# Altium footprint library DDR3.PcbLib: 26 footprints (part 1 of 2)
Each footprint in its own frame and in the unit in brackets; x right, y up, seen from the top. Pads: shape width x height; smd on the part's side, far side on the other; paste and mask are expansions set on the pad; w line width, h text height; cw(c..) or ccw(c..) is an arc to the next point about the centre after c.
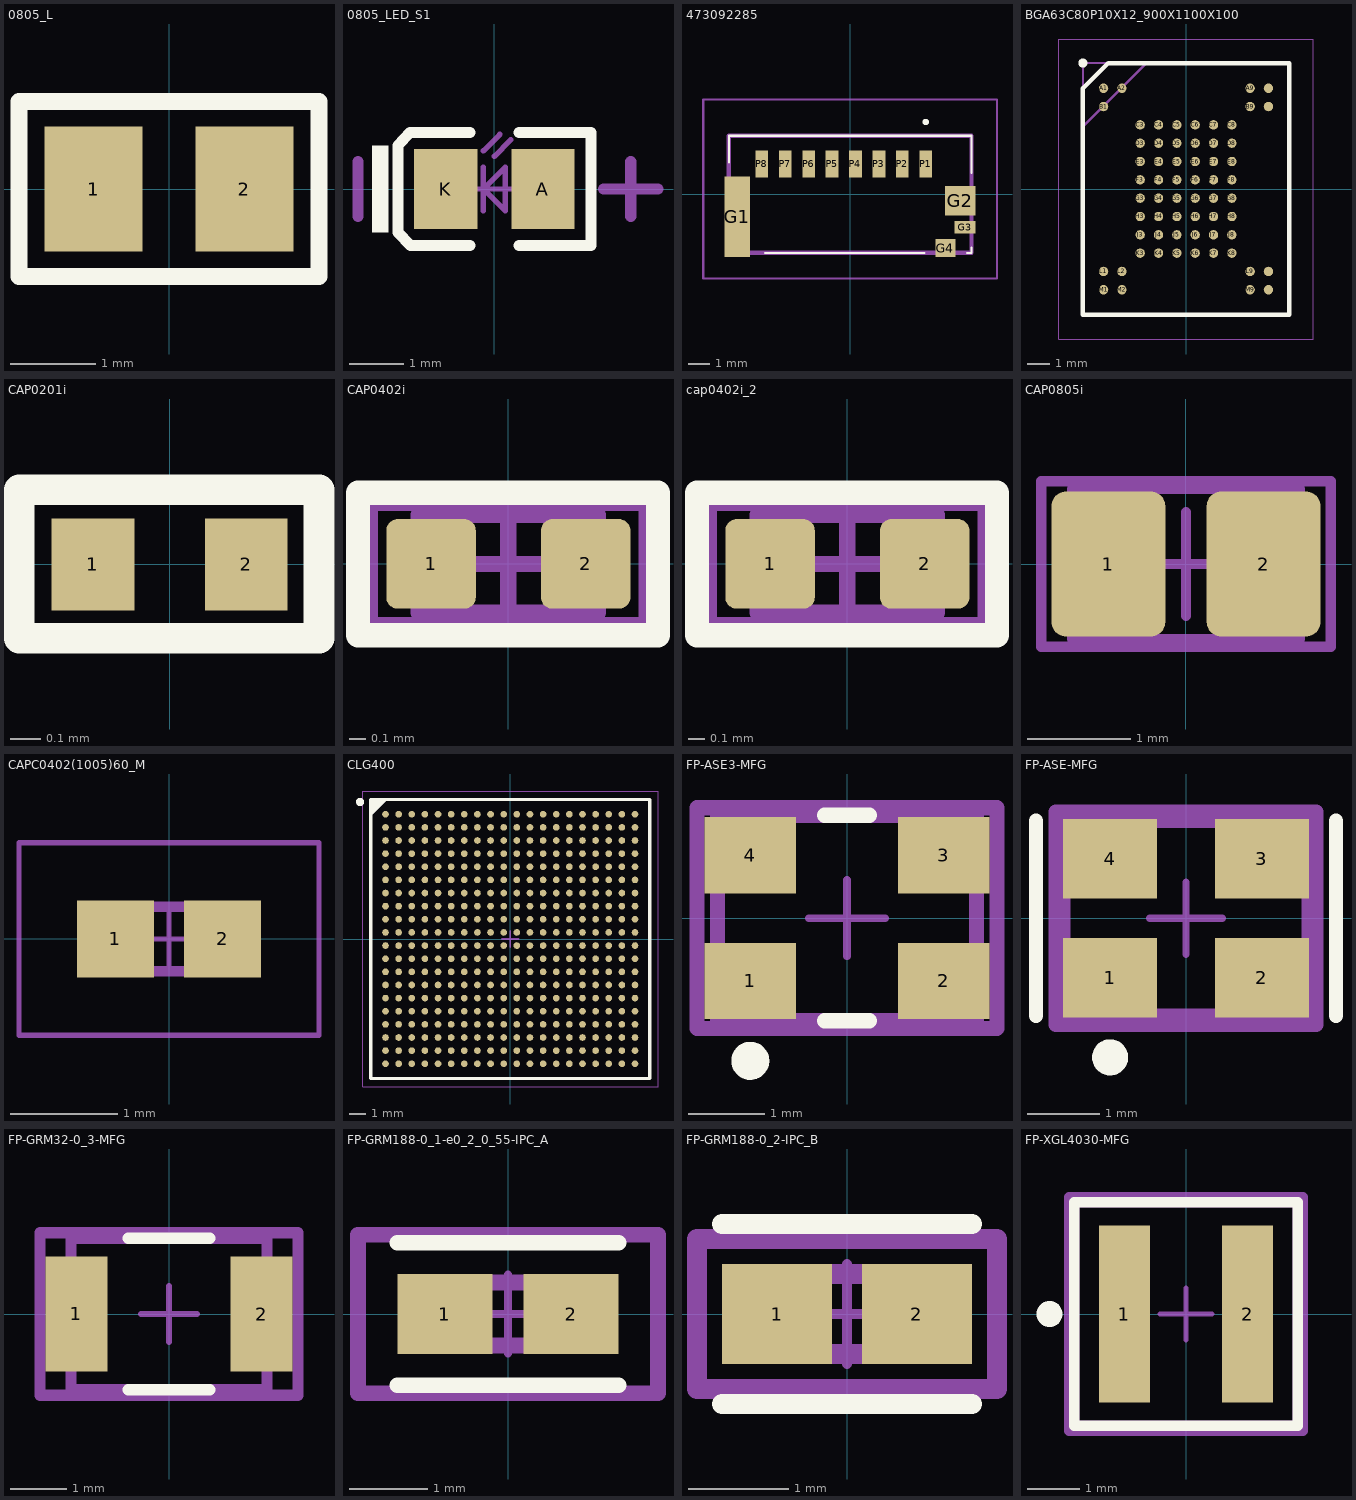
[diagram p0: the footprints below, top view; thin cyan lines are the x and y axes]

## 0805_L [mm]
pads (2):
  rect 1.16x1.47 smd: 1(-0.89,0) 2(0.89,0)
Top Overlay:
  lines w0.2: -1.77,-1.035 -1.77,1.035 1.77,1.035 1.77,-1.035 -1.77,-1.035
3D body "L0805.STEP": height 0.6, standoff -0.02, extent -0.997,-0.638 1.003,0.637

## 0805_LED_S1 [mm]
pads (2):
  rect 1.16x1.47 smd: A(0.89,0) K(-0.89,0)
Top Overlay:
  rectangle: -2.245,-0.8 -1.945,0.8
  lines w0.2: -0.45,-1.035 -1.535,-1.035 -1.77,-0.8 -1.77,0.8 -1.55,1.035 -0.45,1.035 ; 0.45,-1.035 1.77,-1.035 1.77,1.035 0.45,1.035
Mechanical 13:
  lines w0.1: -0.4,0 0.4,0 ; -0.2,-0.4 -0.2,0.4 ; -0.2,0.7 0.1,1 ; 0,0.6 0.3,0.9 ; -0.2,0 0.2,0.4 0.2,-0.4 -0.2,0
Mechanical 15:
  lines w0.203: -2.5,-0.5 -2.5,0.5 ; 2,0 3,0 ; 2.5,-0.5 2.5,0.5
3D body "User Library-led_0805.step": height 1.1, standoff 0, extent -1.01,-0.625 1.01,0.625

## 473092285 [mm]
pads (12):
  rect 1.2x3.79 smd: G1(-5.3,-1.055)
  rect 1.45x1.4 smd: G2(5.175,-0.3)
  rect 1x0.6 smd: G3(5.4,-1.55)
  rect 0.95x0.85 smd: G4(4.475,-2.525)
  rect 0.6x1.25 smd: P1(3.55,1.425) P2(2.45,1.425) P3(1.35,1.425) P4(0.25,1.425) P5(-0.85,1.425) P6(-1.95,1.425) P7(-3.05,1.425) P8(-4.15,1.425)
Top Overlay:
  lines w0.1: -5.7,2.75 5.7,2.75 ; -5.7,2.75 5.7,2.75 ; -5.7,2.75 -5.7,1.5 -5.7,2.75 ; 5.7,-2.75 5.5,-2.75 5.7,-2.75 ; 5.7,-2.75 5.7,-2.5 5.7,-2.75 ; 5.7,2.75 5.7,1 5.7,2.75 ; -4,-2.75 3.5,-2.75 -4,-2.75
  lines w0.2: 3.5,3.4 ccw(c3.55,3.4) 3.6,3.4 ; 3.5,3.4 cw(c3.55,3.4) 3.6,3.4 ; 3.5,3.4 ccw(c3.55,3.4) 3.6,3.4
Top Courtyard:
  lines w0.1: -6.9,-3.95 -6.9,4.45 6.9,4.45 6.9,-3.95 -6.9,-3.95
Mechanical 13:
  lines w0.2: -5.7,-2.75 -5.7,2.75 5.7,2.75 5.7,-2.75 -5.7,-2.75
3D body "47309-2285.stp": height 2.85, standoff 0, extent -5.7,-2.84 5.7,2.66

## BGA63C80P10X12_900X1100X100 [mm]
pads (63):
  round 0.41 smd: A1(-3.6,4.4) A2(-2.8,4.4) A9(2.8,4.4) A10(3.6,4.4) B1(-3.6,3.6) B9(2.8,3.6) B10(3.6,3.6) C3(-2,2.8) C4(-1.2,2.8) C5(-0.4,2.8) C6(0.4,2.8) C7(1.2,2.8) C8(2,2.8) D3(-2,2) D4(-1.2,2) D5(-0.4,2) D6(0.4,2) D7(1.2,2) D8(2,2) E3(-2,1.2) E4(-1.2,1.2) E5(-0.4,1.2) E6(0.4,1.2) E7(1.2,1.2) E8(2,1.2) F3(-2,0.4) F4(-1.2,0.4) F5(-0.4,0.4) F6(0.4,0.4) F7(1.2,0.4) F8(2,0.4) G3(-2,-0.4) G4(-1.2,-0.4) G5(-0.4,-0.4) G6(0.4,-0.4) G7(1.2,-0.4) G8(2,-0.4) H3(-2,-1.2) H4(-1.2,-1.2) H5(-0.4,-1.2) H6(0.4,-1.2) H7(1.2,-1.2) H8(2,-1.2) J3(-2,-2) J4(-1.2,-2) J5(-0.4,-2) J6(0.4,-2) J7(1.2,-2) J8(2,-2) K3(-2,-2.8) K4(-1.2,-2.8) K5(-0.4,-2.8) K6(0.4,-2.8) K7(1.2,-2.8) K8(2,-2.8) L1(-3.6,-3.6) L2(-2.8,-3.6) L9(2.8,-3.6) L10(3.6,-3.6) M1(-3.6,-4.4) M2(-2.8,-4.4) M9(2.8,-4.4) M10(3.6,-4.4)
Top Overlay:
  circle w0.2: c-4.5,5.5 r0.1
  lines w0.2: -4.5,-5.5 -4.5,4.4 -3.4,5.5 4.5,5.5 4.5,-5.5 -4.5,-5.5
Top Courtyard:
  lines w0.05: -5.55,-6.55 -5.55,6.55 5.55,6.55 5.55,-6.55 -5.55,-6.55
Mechanical 13:
  lines w0.1: -4.5,2.725 -1.725,5.5 ; -4.5,-5.5 -4.5,5.5 4.5,5.5 4.5,-5.5 -4.5,-5.5
3D body "MT29F8G08ADADAH4-IT_D.stp": height 1, standoff 0, extent -4.5,-5.5 4.5,5.5

## CAP0201i [mm]
pads (2):
  rect 0.27x0.3 smd mask+0.05: 1(-0.25,0) 2(0.25,0)
Top Overlay:
  lines w0.1: -0.491,-0.241 0.488,-0.241 0.488,0.244 -0.491,0.244 -0.491,-0.241
3D body "GRM033R71C131JA01J.STEP": height 0.31, standoff 0.01, extent -0.311,-0.172 0.289,0.158

## CAP0402i [mm]
pads (2):
  rrect25% 0.55x0.55 smd paste+0 mask+0.07: 1(-0.475,0) 2(0.475,0)
Top Overlay:
  lines w0.15: -0.924,-0.438 -0.924,0.437 -0.137,0.437 0.919,0.437 0.919,-0.438 -0.924,-0.438
Top 3D Body:
  lines w0.1: -0.3,0 0.3,0 ; 0,-0.3 0,0.3 ; -0.85,-0.375 -0.85,0.375 0.85,0.375 0.85,-0.375 -0.85,-0.375
Mechanical 13:
  lines w0.1: -0.55,-0.3 -0.55,0.3 0.55,0.3 0.55,-0.3 -0.55,-0.3
3D body "User Library-Chip Cap_MLCC_0402 (1005).step": height 0.5, standoff 0, extent -0.5,-0.247 0.5,0.253

## cap0402i_2 [mm]
pads (2):
  rrect25% 0.55x0.55 smd paste+0 mask+0.07: 1(-0.475,0) 2(0.475,0)
Top Overlay:
  lines w0.15: -0.924,-0.438 0.919,-0.438 0.919,0.437 -0.137,0.437 -0.924,0.437 -0.924,-0.438
Top 3D Body:
  lines w0.1: -0.3,0 0.3,0 ; 0,-0.3 0,0.3 ; -0.85,-0.375 0.85,-0.375 0.85,0.375 -0.85,0.375 -0.85,-0.375
Mechanical 13:
  lines w0.1: -0.55,-0.3 0.55,-0.3 0.55,0.3 -0.55,0.3 -0.55,-0.3
3D body "User Library-Chip Cap_MLCC_0402 (1005).step": height 0.5, standoff 0, extent -0.5,-0.247 0.5,0.253

## CAP0805i [mm]
pads (2):
  rrect25% 1.1x1.4 smd paste+0 mask+0: 1(-0.75,0) 2(0.75,0)
Top 3D Body:
  lines w0.1: -0.5,0 0.5,0 ; 0,-0.5 0,0.5 ; -1.4,-0.8 -1.4,0.8 1.4,0.8 1.4,-0.8 -1.4,-0.8
Mechanical 13:
  lines w0.1: -1.1,-0.725 -1.1,0.725 1.1,0.725 1.1,-0.725 -1.1,-0.725
3D body "CircuitWorks-CAPACITOR 0805.step": height 0.73, standoff -0.03, extent -1,-0.655 1,0.655

## CAPC0402(1005)60_M [mm] "Chip Capacitor, Body 1.0x0.5mm, Height 0.6mm, IPC Low Density"
height 0.6
pads (2):
  rect 0.72x0.72 smd: 1(-0.5,0) 2(0.5,0)
Mechanical 13:
  lines w0.1: -0.55,-0.3 -0.55,0.3 0.55,0.3 0.55,-0.3 -0.55,-0.3
Mechanical 15:
  lines w0.05: -0.3,0 0.3,0 ; 0,-0.3 0,0.3 ; -1.4,-0.9 -1.4,0.9 1.4,0.9 1.4,-0.9 -1.4,-0.9
3D body: height 0.6, standoff 0, extent -0.3,-0.3 0.3,0.3
3D body: height 0.6, standoff 0, extent -0.55,-0.3 -0.3,0.3
3D body: height 0.6, standoff 0, extent 0.3,-0.3 0.55,0.3

## CLG400 [mm]
pads (400):
  round 0.406 smd: A1(-7.6,7.6) A2(-6.8,7.6) A3(-6,7.6) A4(-5.2,7.6) A5(-4.4,7.6) A6(-3.6,7.6) A7(-2.8,7.6) A8(-2,7.6) A9(-1.2,7.6) A10(-0.4,7.6) A11(0.4,7.6) A12(1.2,7.6) A13(2,7.6) A14(2.8,7.6) A15(3.6,7.6) A16(4.4,7.6) A17(5.2,7.6) A18(6,7.6) A19(6.8,7.6) A20(7.6,7.6) B1(-7.6,6.8) B2(-6.8,6.8) B3(-6,6.8) B4(-5.2,6.8) B5(-4.4,6.8) B6(-3.6,6.8) B7(-2.8,6.8) B8(-2,6.8) B9(-1.2,6.8) B10(-0.4,6.8) B11(0.4,6.8) B12(1.2,6.8) B13(2,6.8) B14(2.8,6.8) B15(3.6,6.8) B16(4.4,6.8) B17(5.2,6.8) B18(6,6.8) B19(6.8,6.8) B20(7.6,6.8) C1(-7.6,6) C2(-6.8,6) C3(-6,6) C4(-5.2,6) C5(-4.4,6) C6(-3.6,6) C7(-2.8,6) C8(-2,6) C9(-1.2,6) C10(-0.4,6) C11(0.4,6) C12(1.2,6) C13(2,6) C14(2.8,6) C15(3.6,6) C16(4.4,6) C17(5.2,6) C18(6,6) C19(6.8,6) C20(7.6,6) D1(-7.6,5.2) D2(-6.8,5.2) D3(-6,5.2) D4(-5.2,5.2) D5(-4.4,5.2) D6(-3.6,5.2) D7(-2.8,5.2) D8(-2,5.2) D9(-1.2,5.2) D10(-0.4,5.2) D11(0.4,5.2) D12(1.2,5.2) D13(2,5.2) D14(2.8,5.2) D15(3.6,5.2) D16(4.4,5.2) D17(5.2,5.2) D18(6,5.2) D19(6.8,5.2) D20(7.6,5.2) E1(-7.6,4.4) E2(-6.8,4.4) E3(-6,4.4) E4(-5.2,4.4) E5(-4.4,4.4) E6(-3.6,4.4) E7(-2.8,4.4) E8(-2,4.4) E9(-1.2,4.4) E10(-0.4,4.4) E11(0.4,4.4) E12(1.2,4.4) E13(2,4.4) E14(2.8,4.4) E15(3.6,4.4) E16(4.4,4.4) E17(5.2,4.4) E18(6,4.4) E19(6.8,4.4) E20(7.6,4.4) F1(-7.6,3.6) F2(-6.8,3.6) F3(-6,3.6) F4(-5.2,3.6) F5(-4.4,3.6) F6(-3.6,3.6) F7(-2.8,3.6) F8(-2,3.6) F9(-1.2,3.6) F10(-0.4,3.6) F11(0.4,3.6) F12(1.2,3.6) F13(2,3.6) F14(2.8,3.6) F15(3.6,3.6) F16(4.4,3.6) F17(5.2,3.6) F18(6,3.6) F19(6.8,3.6) F20(7.6,3.6) G1(-7.6,2.8) G2(-6.8,2.8) G3(-6,2.8) G4(-5.2,2.8) G5(-4.4,2.8) G6(-3.6,2.8) G7(-2.8,2.8) G8(-2,2.8) G9(-1.2,2.8) G10(-0.4,2.8) G11(0.4,2.8) G12(1.2,2.8) G13(2,2.8) G14(2.8,2.8) G15(3.6,2.8) G16(4.4,2.8) G17(5.2,2.8) G18(6,2.8) G19(6.8,2.8) G20(7.6,2.8) H1(-7.6,2) H2(-6.8,2) H3(-6,2) H4(-5.2,2) H5(-4.4,2) H6(-3.6,2) H7(-2.8,2) H8(-2,2) H9(-1.2,2) H10(-0.4,2) H11(0.4,2) H12(1.2,2) H13(2,2) H14(2.8,2) H15(3.6,2) H16(4.4,2) H17(5.2,2) H18(6,2) H19(6.8,2) H20(7.6,2) J1(-7.6,1.2) J2(-6.8,1.2) J3(-6,1.2) J4(-5.2,1.2) J5(-4.4,1.2) J6(-3.6,1.2) J7(-2.8,1.2) J8(-2,1.2) J9(-1.2,1.2) J10(-0.4,1.2) J11(0.4,1.2) J12(1.2,1.2) J13(2,1.2) J14(2.8,1.2) J15(3.6,1.2) J16(4.4,1.2) J17(5.2,1.2) J18(6,1.2) J19(6.8,1.2) J20(7.6,1.2) K1(-7.6,0.4) K2(-6.8,0.4) K3(-6,0.4) K4(-5.2,0.4) K5(-4.4,0.4) K6(-3.6,0.4) K7(-2.8,0.4) K8(-2,0.4) K9(-1.2,0.4) K10(-0.4,0.4) K11(0.4,0.4) K12(1.2,0.4) K13(2,0.4) K14(2.8,0.4) K15(3.6,0.4) K16(4.4,0.4) K17(5.2,0.4) K18(6,0.4) K19(6.8,0.4) K20(7.6,0.4) L1(-7.6,-0.4) L2(-6.8,-0.4) L3(-6,-0.4) L4(-5.2,-0.4) L5(-4.4,-0.4) L6(-3.6,-0.4) L7(-2.8,-0.4) L8(-2,-0.4) L9(-1.2,-0.4) L10(-0.4,-0.4) L11(0.4,-0.4) L12(1.2,-0.4) L13(2,-0.4) L14(2.8,-0.4) L15(3.6,-0.4) L16(4.4,-0.4) L17(5.2,-0.4) L18(6,-0.4) L19(6.8,-0.4) L20(7.6,-0.4) M1(-7.6,-1.2) M2(-6.8,-1.2) M3(-6,-1.2) M4(-5.2,-1.2) M5(-4.4,-1.2) M6(-3.6,-1.2) M7(-2.8,-1.2) M8(-2,-1.2) M9(-1.2,-1.2) M10(-0.4,-1.2) M11(0.4,-1.2) M12(1.2,-1.2) M13(2,-1.2) M14(2.8,-1.2) M15(3.6,-1.2) M16(4.4,-1.2) M17(5.2,-1.2) M18(6,-1.2) M19(6.8,-1.2) M20(7.6,-1.2) N1(-7.6,-2) N2(-6.8,-2) N3(-6,-2) N4(-5.2,-2) N5(-4.4,-2) N6(-3.6,-2) N7(-2.8,-2) N8(-2,-2) N9(-1.2,-2) N10(-0.4,-2) N11(0.4,-2) N12(1.2,-2) N13(2,-2) N14(2.8,-2) N15(3.6,-2) N16(4.4,-2) N17(5.2,-2) N18(6,-2) N19(6.8,-2) N20(7.6,-2) P1(-7.6,-2.8) P2(-6.8,-2.8) P3(-6,-2.8) P4(-5.2,-2.8) P5(-4.4,-2.8) P6(-3.6,-2.8) P7(-2.8,-2.8) P8(-2,-2.8) P9(-1.2,-2.8) P10(-0.4,-2.8) P11(0.4,-2.8) P12(1.2,-2.8) P13(2,-2.8) P14(2.8,-2.8) P15(3.6,-2.8) P16(4.4,-2.8) P17(5.2,-2.8) P18(6,-2.8) P19(6.8,-2.8) P20(7.6,-2.8) R1(-7.6,-3.6) R2(-6.8,-3.6) R3(-6,-3.6) R4(-5.2,-3.6) R5(-4.4,-3.6) R6(-3.6,-3.6) R7(-2.8,-3.6) R8(-2,-3.6) R9(-1.2,-3.6) R10(-0.4,-3.6) R11(0.4,-3.6) R12(1.2,-3.6) R13(2,-3.6) R14(2.8,-3.6) R15(3.6,-3.6) R16(4.4,-3.6) R17(5.2,-3.6) R18(6,-3.6) R19(6.8,-3.6) R20(7.6,-3.6) T1(-7.6,-4.4) T2(-6.8,-4.4) T3(-6,-4.4) T4(-5.2,-4.4) T5(-4.4,-4.4) T6(-3.6,-4.4) T7(-2.8,-4.4) T8(-2,-4.4) T9(-1.2,-4.4) T10(-0.4,-4.4) T11(0.4,-4.4) T12(1.2,-4.4) T13(2,-4.4) T14(2.8,-4.4) T15(3.6,-4.4) T16(4.4,-4.4) T17(5.2,-4.4) T18(6,-4.4) T19(6.8,-4.4) T20(7.6,-4.4) U1(-7.6,-5.2) U2(-6.8,-5.2) U3(-6,-5.2) U4(-5.2,-5.2) U5(-4.4,-5.2) U6(-3.6,-5.2) U7(-2.8,-5.2) U8(-2,-5.2) U9(-1.2,-5.2) U10(-0.4,-5.2) U11(0.4,-5.2) U12(1.2,-5.2) U13(2,-5.2) U14(2.8,-5.2) U15(3.6,-5.2) U16(4.4,-5.2) U17(5.2,-5.2) U18(6,-5.2) U19(6.8,-5.2) U20(7.6,-5.2) V1(-7.6,-6) V2(-6.8,-6) V3(-6,-6) V4(-5.2,-6) V5(-4.4,-6) V6(-3.6,-6) V7(-2.8,-6) V8(-2,-6) V9(-1.2,-6) V10(-0.4,-6) V11(0.4,-6) V12(1.2,-6) V13(2,-6) V14(2.8,-6) V15(3.6,-6) V16(4.4,-6) V17(5.2,-6) V18(6,-6) V19(6.8,-6) V20(7.6,-6) W1(-7.6,-6.8) W2(-6.8,-6.8) W3(-6,-6.8) W4(-5.2,-6.8) W5(-4.4,-6.8) W6(-3.6,-6.8) W7(-2.8,-6.8) W8(-2,-6.8) W9(-1.2,-6.8) W10(-0.4,-6.8) W11(0.4,-6.8) W12(1.2,-6.8) W13(2,-6.8) W14(2.8,-6.8) W15(3.6,-6.8) W16(4.4,-6.8) W17(5.2,-6.8) W18(6,-6.8) W19(6.8,-6.8) W20(7.6,-6.8) Y1(-7.6,-7.6) Y2(-6.8,-7.6) Y3(-6,-7.6) Y4(-5.2,-7.6) Y5(-4.4,-7.6) Y6(-3.6,-7.6) Y7(-2.8,-7.6) Y8(-2,-7.6) Y9(-1.2,-7.6) Y10(-0.4,-7.6) Y11(0.4,-7.6) Y12(1.2,-7.6) Y13(2,-7.6) Y14(2.8,-7.6) Y15(3.6,-7.6) Y16(4.4,-7.6) Y17(5.2,-7.6) Y18(6,-7.6) Y19(6.8,-7.6) Y20(7.6,-7.6)
Top Overlay:
  circle w0.25: c-9.15,8.35 r0.125
  region: -7.584,8.5 -8.5,7.584 -8.5,8.5
  lines w0.2: -8.5,7.584 -7.584,8.5 ; -8.5,-8.5 8.5,-8.5 8.5,8.5 -8.5,8.5 -8.5,-8.5
Mechanical 13:
  lines w0.1: -8.5,-8.5 8.5,-8.5 8.5,8.5 -8.5,8.5 -8.5,-8.5
Mechanical 15:
  lines w0.05: -9,-9 9,-9 9,9 -9,9 -9,-9
  lines w0.1: -0.5,0 0.5,0 ; 0,-0.5 0,0.5
3D body: height 1.6, standoff 0.35, extent -8.5,-8.5 8.5,8.5

## FP-ASE3-MFG [mm]
pads (4):
  rect 1.2x1 smd paste+0 mask+0: 1(-1.27,-0.825) 2(1.27,-0.825) 3(1.27,0.825) 4(-1.27,0.825)
Top Overlay:
  circle w0.25: c-1.27,-1.875 r0.125
  lines w0.2: -0.295,-1.35 0.295,-1.35 ; -0.295,1.35 0.295,1.35
Top 3D Body:
  lines w0.2: -1.7,-1.35 -1.7,1.35 1.7,1.35 1.7,-1.35 -1.7,-1.35
Top Courtyard:
  lines w0.2: -1.97,-1.45 -1.97,1.45 1.97,1.45 1.97,-1.45 -1.97,-1.45
Top Assembly:
  lines w0.2: -1.97,-1.45 -1.97,1.45 1.97,1.45 1.97,-1.45 -1.97,-1.45
  text ".Designator" at 0,0.188 h1
Top Component Center:
  lines w0.1: -0.5,0 0.5,0 ; 0,-0.5 0,0.5
3D body "Crys_Abracon_ASE3-25_000MHZ-KT_eec.STEP": height 1.25, standoff 0, extent -1.6,-1.25 1.6,1.25

## FP-ASE-MFG [mm]
pads (4):
  rect 1.3x1.1 smd paste+0 mask+0: 1(-1.05,-0.825) 2(1.05,-0.825) 3(1.05,0.825) 4(-1.05,0.825)
Top Overlay:
  circle w0.25: c-1.05,-1.925 r0.125
  lines w0.2: -2.075,-1.35 -2.075,1.35 ; 2.075,-1.35 2.075,1.35
Top 3D Body:
  lines w0.2: -1.7,-1.35 -1.7,1.35 1.7,1.35 1.7,-1.35 -1.7,-1.35
Top Courtyard:
  lines w0.2: -1.8,-1.475 -1.8,1.475 1.8,1.475 1.8,-1.475 -1.8,-1.475
Top Assembly:
  lines w0.2: -1.8,-1.475 -1.8,1.475 1.8,1.475 1.8,-1.475 -1.8,-1.475
  text ".Designator" at 0,0.188 h1
Top Component Center:
  lines w0.1: -0.5,0 0.5,0 ; 0,-0.5 0,0.5
3D body "Crys_Abracon_ASE-26_000MHZ-LR-T_eec.STEP": height 1.2, standoff 0, extent -1.6,-1.25 1.6,1.25

## FP-GRM32-0_3-MFG [mm]
pads (2):
  rect 1.1x2.05 smd paste+0 mask+0: 1(-1.65,0) 2(1.65,0)
Top Overlay:
  lines w0.2: -0.725,-1.35 0.725,-1.35 ; -0.725,1.35 0.725,1.35
Top 3D Body:
  lines w0.2: -1.75,-1.35 -1.75,1.35 1.75,1.35 1.75,-1.35 -1.75,-1.35
Top Courtyard:
  lines w0.2: -2.3,-1.45 -2.3,1.45 2.3,1.45 2.3,-1.45 -2.3,-1.45
Top Assembly:
  lines w0.2: -2.3,-1.45 -2.3,1.45 2.3,1.45 2.3,-1.45 -2.3,-1.45
  text ".Designator" at 0,0.188 h1
Top Component Center:
  lines w0.1: -0.5,0 0.5,0 ; 0,-0.5 0,0.5
3D body "Cap_Murata_GRM32ER60J107ME20L_eec.STEP": height 2.7, standoff 0, extent -1.6,-1.25 1.6,1.25

## FP-GRM188-0_1-e0_2_0_55-IPC_A [mm]
pads (2):
  rect 1.208x1.012 smd paste+0 mask+0: 1(-0.802,0) 2(0.802,0)
Top Overlay:
  lines w0.2: -1.406,-0.906 1.406,-0.906 ; -1.406,0.906 1.406,0.906
Top 3D Body:
  lines w0.2: -0.8,-0.4 0.8,-0.4 0.8,0.4 -0.8,0.4 -0.8,-0.4
Top Courtyard:
  lines w0.2: -1.906,-1.006 1.906,-1.006 1.906,1.006 -1.906,1.006 -1.906,-1.006
Top Assembly:
  lines w0.2: -1.906,-1.006 1.906,-1.006 1.906,1.006 -1.906,1.006 -1.906,-1.006
  text ".Designator" at 0,0.188 h1
Top Component Center:
  lines w0.1: -0.5,0 0.5,0 ; 0,-0.5 0,0.5
3D body "Cap_Murata_GRM188R60J106KE47D_eec.STEP": height 0.25, standoff 0, extent -1.906,-1.006 1.906,1.006

## FP-GRM188-0_2-IPC_B [mm]
pads (2):
  rect 1.105x1.006 smd paste+0 mask+0: 1(-0.701,0) 2(0.701,0)
Top Overlay:
  lines w0.2: -1.253,-0.903 1.253,-0.903 ; -1.253,0.903 1.253,0.903
Top 3D Body:
  lines w0.2: -0.8,-0.4 -0.8,0.4 0.8,0.4 0.8,-0.4 -0.8,-0.4
Top Courtyard:
  lines w0.2: -1.503,-0.753 -1.503,0.753 1.503,0.753 1.503,-0.753 -1.503,-0.753
Top Assembly:
  lines w0.2: -1.503,-0.753 -1.503,0.753 1.503,0.753 1.503,-0.753 -1.503,-0.753
  text ".Designator" at 0,0.188 h1
Top Component Center:
  lines w0.1: -0.5,0 0.5,0 ; 0,-0.5 0,0.5
3D body "Cap_Murata_GRM188C71C225KE11D_eec.STEP": height 1, standoff 0, extent -0.8,-0.4 0.8,0.4

## FP-XGL4030-MFG [mm]
pads (2):
  rect 0.98x3.4 smd paste+0 mask+0: 1(-1.185,0) 2(1.185,0)
Top Overlay:
  circle w0.25: c-2.625,0 r0.125
  lines w0.2: -2.15,-2.15 2.15,-2.15 2.15,2.15 -2.15,2.15 -2.15,-2.15
Top 3D Body:
  lines w0.2: -2.15,-2.15 2.15,-2.15 2.15,2.15 -2.15,2.15 -2.15,-2.15
Top Courtyard:
  lines w0.2: -2.25,-2.25 2.25,-2.25 2.25,2.25 -2.25,2.25 -2.25,-2.25
Top Assembly:
  lines w0.2: -2.25,-2.25 2.25,-2.25 2.25,2.25 -2.25,2.25 -2.25,-2.25
  text ".Designator" at 0,0.188 h1
Top Component Center:
  lines w0.1: -0.5,0 0.5,0 ; 0,-0.5 0,0.5
3D body "Ind_Coilcraft_XGL4030-152MEC_eec.STEP": height 0.25, standoff 0, extent -2.25,-2.25 2.25,2.25